# EAGLE library part MCP23017 (library CRD)
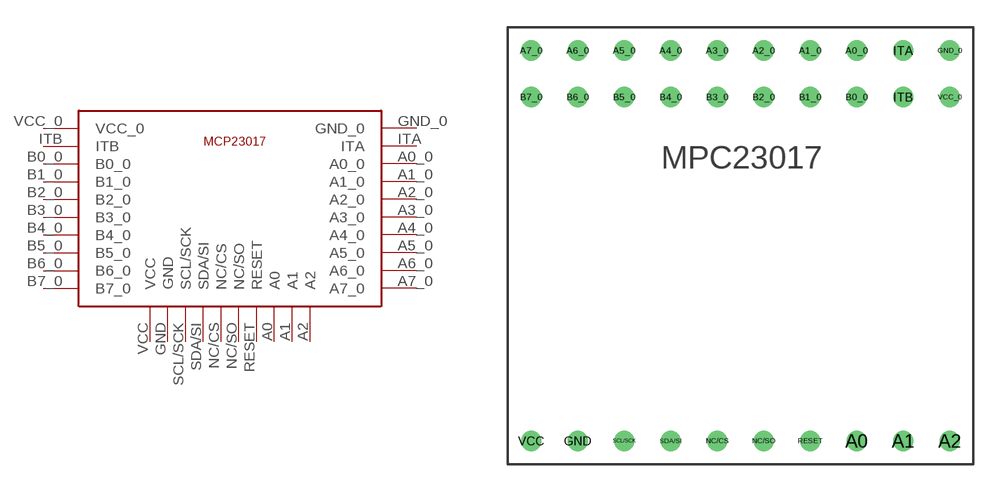
[diagram p0: symbol with the pads of MCP23017_FOOTPRINT; footprint MCP23017_FOOTPRINT]

Designator prefix -

## MCP23017  [MCP23017_FOOTPRINT]
A0  A0
A0_0  A0_0
A1  A1
A1_0  A1_0
A2  A2
A2_0  A2_0
A3_0  A3_0
A4_0  A4_0
A5_0  A5_0
A6_0  A6_0
A7_0  A7_0
B0_0  B0_0
B1_0  B1_0
B2_0  B2_0
B3_0  B3_0
B4_0  B4_0
B5_0  B5_0
B6_0  B6_0
B7_0  B7_0
GND  GND
GND_0  GND_0
ITA  ITA
ITB  ITB
NC/CS  NC/CS
NC/SO  NC/SO
RESET  RESET
SCL/SCK  SCL/SCK
SDA/SI  SDA/SI
VCC  VCC
VCC_0  VCC_0

## Footprint MCP23017_FOOTPRINT (pad centres in mm)
drill 0.6: A0 6.346,-9.892; A0_0 6.35,11.43; A1 8.886,-9.892; A1_0 3.81,11.43; A2 11.426,-9.892; A2_0 1.27,11.43; A3_0 -1.27,11.43; A4_0 -3.81,11.43; A5_0 -6.35,11.43; A6_0 -8.89,11.43; A7_0 -11.43,11.43; B0_0 6.35,8.89; B1_0 3.81,8.89; B2_0 1.27,8.89; B3_0 -1.27,8.89; B4_0 -3.81,8.89; B5_0 -6.35,8.89; B6_0 -8.89,8.89; B7_0 -11.43,8.89; GND -8.894,-9.892; GND_0 11.43,11.43; ITA 8.89,11.43; ITB 8.89,8.89; NC/CS -1.274,-9.892; NC/SO 1.266,-9.892; RESET 3.806,-9.892; SCL/SCK -6.354,-9.892; SDA/SI -3.814,-9.892; VCC -11.434,-9.892; VCC_0 11.43,8.89